# EAGLE library part DD-12864WE-4A (library HedgehogLib)
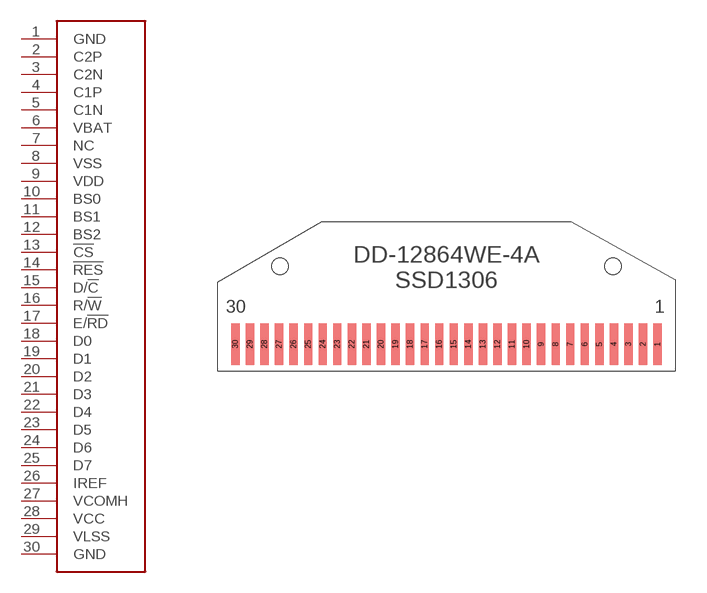
[diagram p5: symbol with the pads of CON_DD-12864WE-4A; footprint CON_DD-12864WE-4A]

Designator prefix -

## DD-12864WE-4A  [CON_DD-12864WE-4A]
1  GND  nc
2  C2P  in
3  C2N  in
4  C1P  in
5  C1N  in
6  VBAT  pwr
7  NC  nc
8  VSS  pwr
9  VDD  pwr
10  BS0  in
11  BS1  in
12  BS2  in
13  !CS  in
14  !RES  in
15  D/!C  in
16  R/!W  in
17  E/!RD  in
18  D0
19  D1
20  D2
21  D3
22  D4
23  D5
24  D6
25  D7
26  IREF  in
27  VCOMH  out
28  VCC  pwr
29  VLSS  out
30  GND  nc

## Footprint CON_DD-12864WE-4A (pad centres in mm)
smd 0.4 x 2: 1 10.15,1; 2 9.45,1; 3 8.75,1; 4 8.05,1; 5 7.35,1; 6 6.65,1; 7 5.95,1; 8 5.25,1; 9 4.55,1; 10 3.85,1; 11 3.15,1; 12 2.45,1; 13 1.75,1; 14 1.05,1; 15 0.35,1; 16 -0.35,1; 17 -1.05,1; 18 -1.75,1; 19 -2.45,1; 20 -3.15,1; 21 -3.85,1; 22 -4.55,1; 23 -5.25,1; 24 -5.95,1; 25 -6.65,1; 26 -7.35,1; 27 -8.05,1; 28 -8.75,1; 29 -9.45,1; 30 -10.15,1
hole 0.8 at -8,4.75
hole 0.8 at 8,4.75